# Altium schematic symbol library G5_RoadWatcher.SchLib: 1 symbol
Pins are listed as number, name and electrical type; pins without a type are passive.

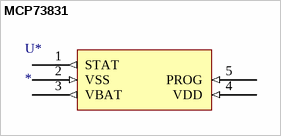
[diagram p0: symbol MCP73831]

## MCP73831
designator U*
footprint MCP73831-SOT23 (SOT23, 5-Leads, Body 2.90x2.70mm, Pitch 0.95mm, IPC Medium Density)
pins: 1 STAT (out), 2 VSS (in), 3 VBAT (out), 4 VDD (in), 5 PROG (in)